# Altium schematic symbol library SCH - ANALOG SWITCH - DIODES 74LVC1G3157.SchLib: 1 symbol
Pins are listed as number, name and electrical type; pins without a type are passive.

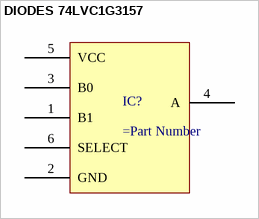
[diagram p0: symbol DIODES 74LVC1G3157]

## DIODES 74LVC1G3157
designator IC?
pins: 1 B1, 2 GND, 3 B0, 4 A, 5 VCC, 6 SELECT